# Altium integrated library ICS-43432.IntLib: 1 symbol
Pins are listed as number, name and electrical type; pins without a type are passive.

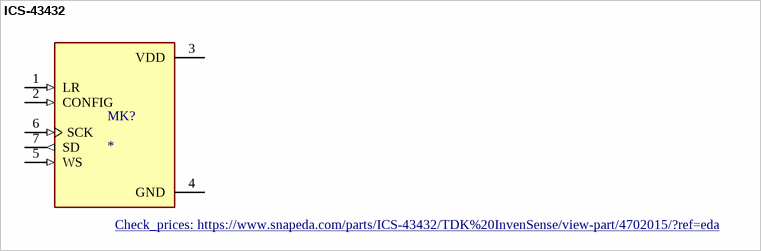
[diagram p0: symbol ICS-43432]

## ICS-43432
designator MK?
50Hz ~ 20kHz Digital, IÂ²S Microphone MEMS (Silicon) 1.62V ~ 3.63V Omnidirectional (-26dB Â±1dB @ 94dB SPL) Solder Pads; MP: ICS-43432; MF: TDK InvenSense; Purchase-URL: https://pricing.snapeda.com/search/part/ICS-43432/?ref=eda; SnapEDA_Link: https://www.snapeda.com/parts/ICS-43432/TDK%20InvenSense/view-part/4702015/?ref=snap; Availability: Good; Package: QFN-16 TDK InvenSense; Value: *; Price: None; Check_prices: https://www.snapeda.com/parts/ICS-43432/TDK%20InvenSense/view-part/4702015/?ref=eda
footprint MIC_ICS-43432
pins: 1 LR (in), 2 CONFIG (in), 3 VDD (power), 4 GND (power), 5 WS (in), 6 SCK (in), 7 SD (out)